# EAGLE library part 87831-22 (library con-molex-milli-grid)
HEADER
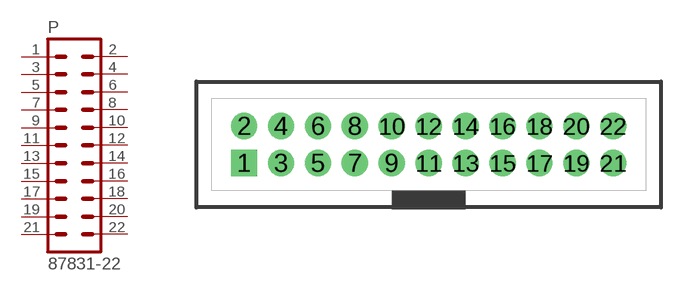
[diagram p54: symbol with the pads of 87831-22; footprint 87831-22]

Designator prefix P

## 87831-22  [87831-22]
1  1  pas
2  2  pas
3  3  pas
4  4  pas
5  5  pas
6  6  pas
7  7  pas
8  8  pas
9  9  pas
10  10  pas
11  11  pas
12  12  pas
13  13  pas
14  14  pas
15  15  pas
16  16  pas
17  17  pas
18  18  pas
19  19  pas
20  20  pas
21  21  pas
22  22  pas

## Footprint 87831-22 (pad centres in mm)
HEADER Dual Row, Shrouded, Vertical
drill 0.914 square: 1 -10,-1
drill 0.914: 2 -10,1; 3 -8,-1; 4 -8,1; 5 -6,-1; 6 -6,1; 7 -4,-1; 8 -4,1; 9 -2,-1; 10 -2,1; 11 0,-1; 12 0,1; 13 2,-1; 14 2,1; 15 4,-1; 16 4,1; 17 6,-1; 18 6,1; 19 8,-1; 20 8,1; 21 10,-1; 22 10,1